# Altium integrated library Diode - Rectifier.IntLib: 777 symbols (part 2 of 12)
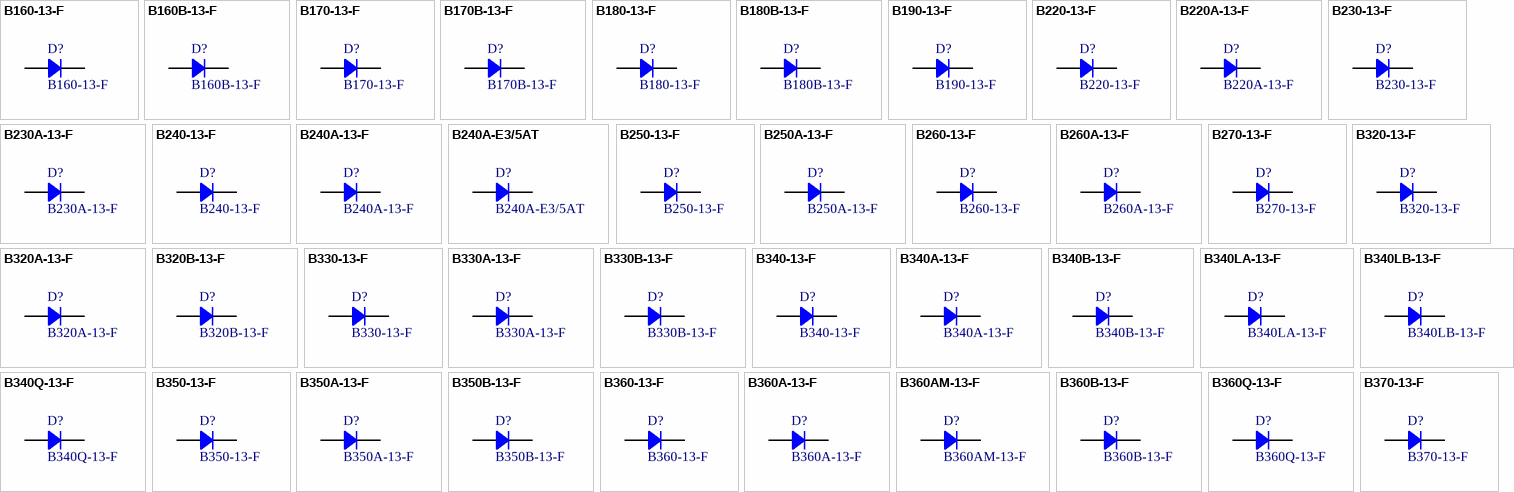
[diagram p20: symbols B160-13-F to B370-13-F]

## B340A-13-F
designator D?
DIODE SCHOTTKY 40V 3A SMA; Manufacturer: Diodes Incorporated; Current Reverse Leakage @ Vr: 500uA @ 40V; Voltage Forward (Vf): 500mV @ 3A; Part Number: B340A-13-F; PartId: 16333; Supplier 1: Digi-Key; Supplier Part Number 1: B340A-FDITR-ND; ComponentLink1Description: Datasheet; ComponentLink1URL: http://www.diodes.com/_files/datasheets/ds30891.pdf; ComponentLink2Description: Digi-Key Listing; ComponentLink2URL: https://www.digikey.com/product-detail/en/diodes-incorporated/B340A-13-F/B340A-FDITR-ND/725015; Junction Operating Temperature: -55C ~ 150C; Price: 0.1085; Type: Schottky; Device Package: DO-214AC, SMA; Voltage DC Reverse (Vr): 40V; Current Rectified: 3A
footprint DO214AC SMA
pins: 1, 2

## B340B-13-F
designator D?
DIODE SCHOTTKY 40V 3A SMB; Manufacturer: Diodes Incorporated; Current Reverse Leakage @ Vr: 500uA @ 40V; Voltage Forward (Vf): 500mV @ 3A; Part Number: B340B-13-F; PartId: 16249; Supplier 1: Digi-Key; Supplier Part Number 1: B340B-FDITR-ND; ComponentLink1Description: Datasheet; ComponentLink1URL: http://www.diodes.com/_files/datasheets/ds30924.pdf; ComponentLink2Description: Digi-Key Listing; ComponentLink2URL: https://www.digikey.com/product-detail/en/diodes-incorporated/B340B-13-F/B340B-FDITR-ND/768869; Junction Operating Temperature: -55C ~ 150C; Price: 0.132; Type: Schottky; Device Package: DO-214AA, SMB; Voltage DC Reverse (Vr): 40V; Current Rectified: 3A
footprint DO214AA SMB
pins: 1, 2

## B340LA-13-F
designator D?
DIODE SCHOTTKY 40V 3A SMA; Manufacturer: Diodes Incorporated; Current Reverse Leakage @ Vr: 2mA @ 40V; Voltage Forward (Vf): 450mV @ 3A; Part Number: B340LA-13-F; PartId: 16340; Supplier 1: Digi-Key; Supplier Part Number 1: B340LA-FDITR-ND; ComponentLink1Description: Datasheet; ComponentLink1URL: http://www.diodes.com/_files/datasheets/ds30240.pdf; ComponentLink2Description: Digi-Key Listing; ComponentLink2URL: https://www.digikey.com/product-detail/en/diodes-incorporated/B340LA-13-F/B340LA-FDITR-ND/768769; Junction Operating Temperature: -55C ~ 125C; Price: 0.1305; Type: Schottky; Device Package: DO-214AC, SMA; Voltage DC Reverse (Vr): 40V; Current Rectified: 3A
footprint DO214AC SMA
pins: 1, 2

## B340LB-13-F
designator D?
DIODE SCHOTTKY 40V 3A SMB; Manufacturer: Diodes Incorporated; Current Reverse Leakage @ Vr: 2mA @ 40V; Voltage Forward (Vf): 450mV @ 3A; Part Number: B340LB-13-F; PartId: 16254; Supplier 1: Digi-Key; Supplier Part Number 1: B340LB-FDITR-ND; ComponentLink1Description: Datasheet; ComponentLink1URL: http://www.diodes.com/_files/datasheets/ds30240.pdf; ComponentLink2Description: Digi-Key Listing; ComponentLink2URL: https://www.digikey.com/product-detail/en/diodes-incorporated/B340LB-13-F/B340LB-FDITR-ND/755461; Junction Operating Temperature: -55C ~ 125C; Price: 0.1395; Type: Schottky; Device Package: DO-214AA, SMB; Voltage DC Reverse (Vr): 40V; Current Rectified: 3A
footprint DO214AA SMB
pins: 1, 2

## B340Q-13-F
designator D?
DIODE SCHOTTKY 40V 3A SMC; Manufacturer: Diodes Incorporated; Current Reverse Leakage @ Vr: 100nA @ 40V; Voltage Forward (Vf): 500mV @ 3A; Part Number: B340Q-13-F; PartId: 27818; Supplier 1: Digi-Key; Supplier Part Number 1: B340Q-13-FDICT-ND; ComponentLink1Description: Datasheet; ComponentLink1URL: http://www.diodes.com/_files/datasheets/B370Q-B3100Q.pdf; ComponentLink2Description: Digi-Key Listing; ComponentLink2URL: https://www.digikey.com/product-detail/en/diodes-incorporated/B340Q-13-F/B340Q-13-FDICT-ND/6012770; Junction Operating Temperature: -55C ~ 150C; Price: 0.48; Type: Schottky; Device Package: DO-214AB, SMC; Voltage DC Reverse (Vr): 40V; Current Rectified: 3A
footprint ST DO214AB SMC
pins: 1, 2

## B350-13-F
designator D?
DIODE SCHOTTKY 50V 3A SMC; Manufacturer: Diodes Incorporated; Current Reverse Leakage @ Vr: 500uA @ 50V; Voltage Forward (Vf): 700mV @ 3A; Part Number: B350-13-F; PartId: 16217; Supplier 1: Digi-Key; Supplier Part Number 1: B350-FDITR-ND; ComponentLink1Description: Datasheet; ComponentLink1URL: http://www.diodes.com/_files/datasheets/ds30923.pdf; ComponentLink2Description: Digi-Key Listing; ComponentLink2URL: https://www.digikey.com/product-detail/en/diodes-incorporated/B350-13-F/B350-FDITR-ND/724948; Junction Operating Temperature: -55C ~ 125C; Price: 0.155; Type: Schottky; Device Package: DO-214AB, SMC; Voltage DC Reverse (Vr): 50V; Current Rectified: 3A
footprint DO214AB SMC
pins: 1, 2

## B350A-13-F
designator D?
DIODE SCHOTTKY 50V 3A SMA; Manufacturer: Diodes Incorporated; Current Reverse Leakage @ Vr: 500uA @ 50V; Voltage Forward (Vf): 700mV @ 3A; Part Number: B350A-13-F; PartId: 16343; Supplier 1: Digi-Key; Supplier Part Number 1: B350A-FDITR-ND; ComponentLink1Description: Datasheet; ComponentLink1URL: http://www.diodes.com/_files/datasheets/ds30891.pdf; ComponentLink2Description: Digi-Key Listing; ComponentLink2URL: https://www.digikey.com/product-detail/en/diodes-incorporated/B350A-13-F/B350A-FDITR-ND/751522; Junction Operating Temperature: -55C ~ 150C; Price: 0.1377; Type: Schottky; Device Package: DO-214AC, SMA; Voltage DC Reverse (Vr): 50V; Current Rectified: 3A
footprint DO214AC SMA
pins: 1, 2

## B350B-13-F
designator D?
DIODE SCHOTTKY 50V 3A SMB; Manufacturer: Diodes Incorporated; Current Reverse Leakage @ Vr: 500uA @ 50V; Voltage Forward (Vf): 700mV @ 3A; Part Number: B350B-13-F; PartId: 16258; Supplier 1: Digi-Key; Supplier Part Number 1: B350B-FDITR-ND; ComponentLink1Description: Datasheet; ComponentLink1URL: http://www.diodes.com/_files/datasheets/ds30924.pdf; ComponentLink2Description: Digi-Key Listing; ComponentLink2URL: https://www.digikey.com/product-detail/en/diodes-incorporated/B350B-13-F/B350B-FDITR-ND/724949; Junction Operating Temperature: -55C ~ 150C; Price: 0.186; Type: Schottky; Device Package: DO-214AA, SMB; Voltage DC Reverse (Vr): 50V; Current Rectified: 3A
footprint DO214AA SMB
pins: 1, 2

## B360-13-F
designator D?
DIODE SCHOTTKY 60V 3A SMC; Manufacturer: Diodes Incorporated; Current Reverse Leakage @ Vr: 500uA @ 60V; Voltage Forward (Vf): 700mV @ 3A; Part Number: B360-13-F; PartId: 16218; Supplier 1: Digi-Key; Supplier Part Number 1: B360-FDITR-ND; ComponentLink1Description: Datasheet; ComponentLink1URL: http://www.diodes.com/_files/datasheets/ds30923.pdf; ComponentLink2Description: Digi-Key Listing; ComponentLink2URL: https://www.digikey.com/product-detail/en/diodes-incorporated/B360-13-F/B360-FDITR-ND/814949; Junction Operating Temperature: -55C ~ 150C; Price: 0.1705; Type: Schottky; Device Package: DO-214AB, SMC; Voltage DC Reverse (Vr): 60V; Current Rectified: 3A
footprint DO214AB SMC
pins: 1, 2

## B360A-13-F
designator D?
DIODE SCHOTTKY 60V 3A SMA; Manufacturer: Diodes Incorporated; Current Reverse Leakage @ Vr: 500uA @ 60V; Voltage Forward (Vf): 700mV @ 3A; Part Number: B360A-13-F; PartId: 16335; Supplier 1: Digi-Key; Supplier Part Number 1: B360A-FDITR-ND; ComponentLink1Description: Datasheet; ComponentLink1URL: http://www.diodes.com/_files/datasheets/ds30891.pdf; ComponentLink2Description: Digi-Key Listing; ComponentLink2URL: https://www.digikey.com/product-detail/en/diodes-incorporated/B360A-13-F/B360A-FDITR-ND/724950; Junction Operating Temperature: -55C ~ 150C; Price: 0.1162; Type: Schottky; Device Package: DO-214AC, SMA; Voltage DC Reverse (Vr): 60V; Current Rectified: 3A
footprint DO214AC SMA
pins: 1, 2

## B360AM-13-F
designator D?
DIODE SCHOTTKY 60V 3A SMA; Manufacturer: Diodes Incorporated; Current Reverse Leakage @ Vr: 100uA @ 60V; Voltage Forward (Vf): 700mV @ 3A; Part Number: B360AM-13-F; PartId: 16359; Supplier 1: Digi-Key; Supplier Part Number 1: B360AM-13-FDITR-ND; ComponentLink1Description: Datasheet; ComponentLink1URL: http://diodes.com/_files/datasheets/B360AM.pdf; ComponentLink2Description: Digi-Key Listing; ComponentLink2URL: https://www.digikey.com/product-detail/en/diodes-incorporated/B360AM-13-F/B360AM-13-FDITR-ND/5225291; Junction Operating Temperature: -55C ~ 150C; Price: 0.1545; Type: Schottky; Device Package: DO-214AC, SMA; Voltage DC Reverse (Vr): 60V; Current Rectified: 3A
footprint DO214AC SMA
pins: 1, 2

## B360B-13-F
designator D?
DIODE SCHOTTKY 60V 3A SMB; Manufacturer: Diodes Incorporated; Current Reverse Leakage @ Vr: 500uA @ 60V; Voltage Forward (Vf): 700mV @ 3A; Part Number: B360B-13-F; PartId: 16255; Supplier 1: Digi-Key; Supplier Part Number 1: B360B-FDITR-ND; ComponentLink1Description: Datasheet; ComponentLink1URL: http://www.diodes.com/_files/datasheets/ds30924.pdf; ComponentLink2Description: Digi-Key Listing; ComponentLink2URL: https://www.digikey.com/product-detail/en/diodes-incorporated/B360B-13-F/B360B-FDITR-ND/814950; Junction Operating Temperature: -55C ~ 150C; Price: 0.1395; Type: Schottky; Device Package: DO-214AA, SMB; Voltage DC Reverse (Vr): 60V; Current Rectified: 3A
footprint DO214AA SMB
pins: 1, 2

## B360Q-13-F
designator D?
DIODE SCHOTTKY 60V 3A SMC; Manufacturer: Diodes Incorporated; Current Reverse Leakage @ Vr: 100nA @ 60V; Voltage Forward (Vf): 700mV @ 3A; Part Number: B360Q-13-F; PartId: 27816; Supplier 1: Digi-Key; Supplier Part Number 1: B360Q-13-FDICT-ND; ComponentLink1Description: Datasheet; ComponentLink1URL: http://www.diodes.com/_files/datasheets/B370Q-B3100Q.pdf; ComponentLink2Description: Digi-Key Listing; ComponentLink2URL: https://www.digikey.com/product-detail/en/diodes-incorporated/B360Q-13-F/B360Q-13-FDICT-ND/6012769; Junction Operating Temperature: -55C ~ 150C; Price: 0.45; Type: Schottky; Device Package: DO-214AB, SMC; Voltage DC Reverse (Vr): 60V; Current Rectified: 3A
footprint ST DO214AB SMC
pins: 1, 2

## B370-13-F
designator D?
DIODE SCHOTTKY 70V 3A SMC; Manufacturer: Diodes Incorporated; Current Reverse Leakage @ Vr: 500uA @ 70V; Voltage Forward (Vf): 790mV @ 3A; Part Number: B370-13-F; PartId: 16205; Supplier 1: Digi-Key; Supplier Part Number 1: B370-FDITR-ND; ComponentLink1Description: Datasheet; ComponentLink1URL: //media.digikey.com/pdf/Data%20Sheets/Diodes%20PDFs/B370-B3100.pdf; ComponentLink2Description: Digi-Key Listing; ComponentLink2URL: https://www.digikey.com/product-detail/en/diodes-incorporated/B370-13-F/B370-FDITR-ND/814948; Junction Operating Temperature: -55C ~ 125C; Price: 0.217; Type: Schottky; Device Package: DO-214AB, SMC; Voltage DC Reverse (Vr): 70V; Current Rectified: 3A
footprint DO214AB SMC
pins: 1, 2

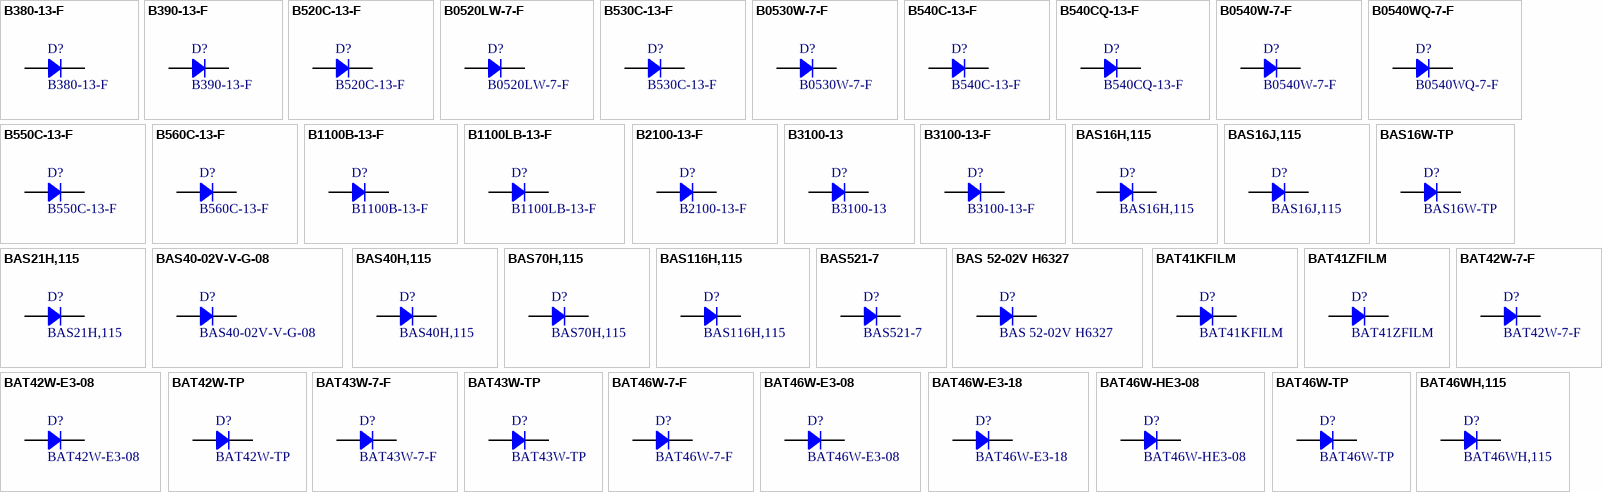
[diagram p2: symbols B380-13-F to BAT46WH,115]

## B380-13-F
designator D?
DIODE SCHOTTKY 80V 3A SMC; Manufacturer: Diodes Incorporated; Current Reverse Leakage @ Vr: 500uA @ 80V; Voltage Forward (Vf): 790mV @ 3A; Part Number: B380-13-F; PartId: 16210; Supplier 1: Digi-Key; Supplier Part Number 1: B380-FDITR-ND; ComponentLink1Description: Datasheet; ComponentLink1URL: //media.digikey.com/pdf/Data%20Sheets/Diodes%20PDFs/B370-B3100.pdf; ComponentLink2Description: Digi-Key Listing; ComponentLink2URL: https://www.digikey.com/product-detail/en/diodes-incorporated/B380-13-F/B380-FDITR-ND/814987; Junction Operating Temperature: -55C ~ 125C; Price: 0.29; Type: Schottky; Device Package: DO-214AB, SMC; Voltage DC Reverse (Vr): 80V; Current Rectified: 3A
footprint DO214AB SMC
pins: 1, 2

## B390-13-F
designator D?
DIODE SCHOTTKY 90V 3A SMC; Manufacturer: Diodes Incorporated; Current Reverse Leakage @ Vr: 500uA @ 90V; Voltage Forward (Vf): 790mV @ 3A; Part Number: B390-13-F; PartId: 27883; Supplier 1: Digi-Key; Supplier Part Number 1: B390-FDICT-ND; ComponentLink1Description: Datasheet; ComponentLink1URL: //media.digikey.com/pdf/Data%20Sheets/Diodes%20PDFs/B370-B3100.pdf; ComponentLink2Description: Digi-Key Listing; ComponentLink2URL: https://www.digikey.com/product-detail/en/diodes-incorporated/B390-13-F/B390-FDICT-ND/806564; Junction Operating Temperature: -55C ~ 125C; Price: 1.6; Type: Schottky; Device Package: DO-214AB, SMC; Voltage DC Reverse (Vr): 90V; Current Rectified: 3A
footprint ST DO214AB SMC
pins: 1, 2

## B520C-13-F
designator D?
DIODE SCHOTTKY 20V 5A SMC; Manufacturer: Diodes Incorporated; Current Reverse Leakage @ Vr: 500uA @ 20V; Voltage Forward (Vf): 550mV @ 5A; Part Number: B520C-13-F; PartId: 16228; Supplier 1: Digi-Key; Supplier Part Number 1: B520C-FDITR-ND; ComponentLink1Description: Datasheet; ComponentLink1URL: http://www.diodes.com/_files/datasheets/ds13012.pdf; ComponentLink2Description: Digi-Key Listing; ComponentLink2URL: https://www.digikey.com/product-detail/en/diodes-incorporated/B520C-13-F/B520C-FDITR-ND/806535; Junction Operating Temperature: -55C ~ 150C; Price: 0.3335; Type: Schottky; Device Package: DO-214AB, SMC; Voltage DC Reverse (Vr): 20V; Current Rectified: 5A
footprint DO214AB SMC
pins: 1, 2

## B0520LW-7-F
designator D?
DIODE SCHOTTKY 20V 500MA SOD123; Manufacturer: Diodes Incorporated; Current Reverse Leakage @ Vr: 250uA @ 20V; Voltage Forward (Vf): 385mV @ 500mA; Part Number: B0520LW-7-F; PartId: 14596; Supplier 1: Digi-Key; Supplier Part Number 1: B0520LW-FDITR-ND; ComponentLink1Description: Datasheet; ComponentLink1URL: http://www.diodes.com/_files/datasheets/ds30051.pdf; ComponentLink2Description: Digi-Key Listing; ComponentLink2URL: https://www.digikey.com/product-detail/en/diodes-incorporated/B0520LW-7-F/B0520LW-FDITR-ND/717687; Junction Operating Temperature: -65C ~ 125C; Price: 0.0552; Type: Schottky; Device Package: SOD-123; Voltage DC Reverse (Vr): 20V; Current Rectified: 500mA
footprint SOD-123
pins: 1, 2

## B530C-13-F
designator D?
DIODE SCHOTTKY 30V 5A SMC; Manufacturer: Diodes Incorporated; Current Reverse Leakage @ Vr: 500uA @ 30V; Voltage Forward (Vf): 550mV @ 5A; Part Number: B530C-13-F; PartId: 16229; Supplier 1: Digi-Key; Supplier Part Number 1: B530C-FDITR-ND; ComponentLink1Description: Datasheet; ComponentLink1URL: http://www.diodes.com/_files/datasheets/ds13012.pdf; ComponentLink2Description: Digi-Key Listing; ComponentLink2URL: https://www.digikey.com/product-detail/en/diodes-incorporated/B530C-13-F/B530C-FDITR-ND/768770; Junction Operating Temperature: -55C ~ 150C; Price: 0.348; Type: Schottky; Device Package: DO-214AB, SMC; Voltage DC Reverse (Vr): 30V; Current Rectified: 5A
footprint DO214AB SMC
pins: 1, 2

## B0530W-7-F
designator D?
DIODE SCHOTTKY 30V 500MA SOD123; Manufacturer: Diodes Incorporated; Current Reverse Leakage @ Vr: 130uA @ 30V; Voltage Forward (Vf): 430mV @ 500mA; Part Number: B0530W-7-F; PartId: 14597; Supplier 1: Digi-Key; Supplier Part Number 1: B0530W-FDITR-ND; ComponentLink1Description: Datasheet; ComponentLink1URL: http://www.diodes.com/_files/datasheets/ds30139.pdf; ComponentLink2Description: Digi-Key Listing; ComponentLink2URL: https://www.digikey.com/product-detail/en/diodes-incorporated/B0530W-7-F/B0530W-FDITR-ND/814937; Junction Operating Temperature: -65C ~ 125C; Price: 0.0552; Type: Schottky; Device Package: SOD-123; Voltage DC Reverse (Vr): 30V; Current Rectified: 500mA
footprint SOD-123
pins: 1, 2

## B540C-13-F
designator D?
DIODE SCHOTTKY 40V 5A SMC; Manufacturer: Diodes Incorporated; Current Reverse Leakage @ Vr: 500uA @ 40V; Voltage Forward (Vf): 550mV @ 5A; Part Number: B540C-13-F; PartId: 16200; Supplier 1: Digi-Key; Supplier Part Number 1: B540C-FDITR-ND; ComponentLink1Description: Datasheet; ComponentLink1URL: http://www.diodes.com/_files/datasheets/ds13012.pdf; ComponentLink2Description: Digi-Key Listing; ComponentLink2URL: https://www.digikey.com/product-detail/en/diodes-incorporated/B540C-13-F/B540C-FDITR-ND/768771; Junction Operating Temperature: -55C ~ 125C; Price: 0.1705; Type: Schottky; Device Package: DO-214AB, SMC; Voltage DC Reverse (Vr): 40V; Current Rectified: 5A
footprint DO214AB SMC
pins: 1, 2

## B540CQ-13-F
designator D?
DIODE SCHOTTKY 40V 5A SMC; Manufacturer: Diodes Incorporated; Current Reverse Leakage @ Vr: 500uA @ 40V; Voltage Forward (Vf): 550mV @ 5A; Part Number: B540CQ-13-F; PartId: 27686; Supplier 1: Digi-Key; Supplier Part Number 1: B540CQ-13-FDICT-ND; ComponentLink1Description: Datasheet; ComponentLink1URL: http://diodes.com/_files/datasheets/ds13012.pdf; ComponentLink2Description: Digi-Key Listing; ComponentLink2URL: https://www.digikey.com/product-detail/en/diodes-incorporated/B540CQ-13-F/B540CQ-13-FDICT-ND/5223258; Junction Operating Temperature: -55C ~ 150C; Price: 0.54; Type: Schottky; Device Package: DO-214AB, SMC; Voltage DC Reverse (Vr): 40V; Current Rectified: 5A
footprint ST DO214AB SMC
pins: 1, 2

## B0540W-7-F
designator D?
DIODE SCHOTTKY 40V 500MA SOD123; Manufacturer: Diodes Incorporated; Current Reverse Leakage @ Vr: 20uA @ 40V; Voltage Forward (Vf): 510mV @ 500mA; Part Number: B0540W-7-F; PartId: 14601; Supplier 1: Digi-Key; Supplier Part Number 1: B0540W-FDITR-ND; ComponentLink1Description: Datasheet; ComponentLink1URL: http://www.diodes.com/_files/datasheets/ds30138.pdf; ComponentLink2Description: Digi-Key Listing; ComponentLink2URL: https://www.digikey.com/product-detail/en/diodes-incorporated/B0540W-7-F/B0540W-FDITR-ND/717688; Junction Operating Temperature: -65C ~ 150C; Price: 0.0644; Type: Schottky; Device Package: SOD-123; Voltage DC Reverse (Vr): 40V; Current Rectified: 500mA
footprint SOD-123
pins: 1, 2

## B0540WQ-7-F
designator D?
DIODE SCHOTTKY 40V 500MA SOD123; Manufacturer: Diodes Incorporated; Current Reverse Leakage @ Vr: 20uA @ 40V; Voltage Forward (Vf): 510mV @ 500mA; Part Number: B0540WQ-7-F; PartId: 29426; Supplier 1: Digi-Key; Supplier Part Number 1: B0540WQ-7-FDICT-ND; ComponentLink1Description: Datasheet; ComponentLink1URL: http://www.diodes.com/_files/datasheets/B0540WQ.pdf; ComponentLink2Description: Digi-Key Listing; ComponentLink2URL: https://www.digikey.com/product-detail/en/diodes-incorporated/B0540WQ-7-F/B0540WQ-7-FDICT-ND/6193618; Junction Operating Temperature: -55C ~ 150C; Price: 0.37; Type: Schottky; Device Package: SOD-123; Voltage DC Reverse (Vr): 40V; Current Rectified: 500mA
footprint SOD-123
pins: 1, 2

## B550C-13-F
designator D?
DIODE SCHOTTKY 50V 5A SMC; Manufacturer: Diodes Incorporated; Current Reverse Leakage @ Vr: 500uA @ 50V; Voltage Forward (Vf): 700mV @ 5A; Part Number: B550C-13-F; PartId: 16211; Supplier 1: Digi-Key; Supplier Part Number 1: B550C-FDITR-ND; ComponentLink1Description: Datasheet; ComponentLink1URL: http://www.diodes.com/_files/datasheets/ds13012.pdf; ComponentLink2Description: Digi-Key Listing; ComponentLink2URL: https://www.digikey.com/product-detail/en/diodes-incorporated/B550C-13-F/B550C-FDITR-ND/768772; Junction Operating Temperature: -55C ~ 150C; Price: 0.3335; Type: Schottky; Device Package: DO-214AB, SMC; Voltage DC Reverse (Vr): 50V; Current Rectified: 5A
footprint DO214AB SMC
pins: 1, 2

## B560C-13-F
designator D?
DIODE SCHOTTKY 60V 5A SMC; Manufacturer: Diodes Incorporated; Current Reverse Leakage @ Vr: 500uA @ 60V; Voltage Forward (Vf): 700mV @ 5A; Part Number: B560C-13-F; PartId: 16199; Supplier 1: Digi-Key; Supplier Part Number 1: B560C-FDITR-ND; ComponentLink1Description: Datasheet; ComponentLink1URL: http://www.diodes.com/_files/datasheets/ds13012.pdf; ComponentLink2Description: Digi-Key Listing; ComponentLink2URL: https://www.digikey.com/product-detail/en/diodes-incorporated/B560C-13-F/B560C-FDITR-ND/768773; Junction Operating Temperature: -55C ~ 150C; Price: 0.1705; Type: Schottky; Device Package: DO-214AB, SMC; Voltage DC Reverse (Vr): 60V; Current Rectified: 5A
footprint DO214AB SMC
pins: 1, 2

## B1100B-13-F
designator D?
DIODE SCHOTTKY 100V 1A SMB; Manufacturer: Diodes Incorporated; Current Reverse Leakage @ Vr: 500uA @ 100V; Voltage Forward (Vf): 790mV @ 1A; Part Number: B1100B-13-F; PartId: 16295; Supplier 1: Digi-Key; Supplier Part Number 1: B1100B-FDITR-ND; ComponentLink1Description: Datasheet; ComponentLink1URL: http://www.diodes.com/_files/datasheets/ds30018.pdf; ComponentLink2Description: Digi-Key Listing; ComponentLink2URL: https://www.digikey.com/product-detail/en/diodes-incorporated/B1100B-13-F/B1100B-FDITR-ND/768766; Junction Operating Temperature: -65C ~ 150C; Price: 0.3335; Type: Schottky; Device Package: DO-214AA, SMB; Voltage DC Reverse (Vr): 100V; Current Rectified: 1A
footprint DO214AA SMB
pins: 1, 2

## B1100LB-13-F
designator D?
DIODE SCHOTTKY 100V 1A SMB; Manufacturer: Diodes Incorporated; Current Reverse Leakage @ Vr: 500uA @ 100V; Voltage Forward (Vf): 750mV @ 1A; Part Number: B1100LB-13-F; PartId: 16248; Supplier 1: Digi-Key; Supplier Part Number 1: B1100LB-FDITR-ND; ComponentLink1Description: Datasheet; ComponentLink1URL: http://www.diodes.com/_files/datasheets/ds30077.pdf; ComponentLink2Description: Digi-Key Listing; ComponentLink2URL: https://www.digikey.com/product-detail/en/diodes-incorporated/B1100LB-13-F/B1100LB-FDITR-ND/814932; Junction Operating Temperature: -65C ~ 175C; Price: 0.1188; Type: Schottky; Device Package: DO-214AA, SMB; Voltage DC Reverse (Vr): 100V; Current Rectified: 1A
footprint DO214AA SMB
pins: 1, 2

## B2100-13-F
designator D?
DIODE SCHOTTKY 100V 2A SMB; Manufacturer: Diodes Incorporated; Current Reverse Leakage @ Vr: 7mA @ 100V; Voltage Forward (Vf): 790mV @ 2A; Part Number: B2100-13-F; PartId: 16252; Supplier 1: Digi-Key; Supplier Part Number 1: B2100-FDITR-ND; ComponentLink1Description: Datasheet; ComponentLink1URL: http://www.diodes.com/_files/datasheets/ds30021.pdf; ComponentLink2Description: Digi-Key Listing; ComponentLink2URL: https://www.digikey.com/product-detail/en/diodes-incorporated/B2100-13-F/B2100-FDITR-ND/814957; Junction Operating Temperature: -65C ~ 150C; Price: 0.132; Type: Schottky; Device Package: DO-214AA, SMB; Voltage DC Reverse (Vr): 100V; Current Rectified: 2A
footprint DO214AA SMB
pins: 1, 2

## B3100-13
designator D?
DIODE SCHOTTKY 100V 3A SMC; Manufacturer: Diodes Incorporated; Current Reverse Leakage @ Vr: 500uA @ 100V; Voltage Forward (Vf): 790mV @ 3A; Part Number: B3100-13; PartId: 16236; Supplier 1: Digi-Key; Supplier Part Number 1: 981-B3100-13-CHP; ComponentLink1Description: Datasheet; ComponentLink1URL: //media.digikey.com/pdf/Data%20Sheets/Diodes%20PDFs/B370-B3100.pdf; ComponentLink2Description: Digi-Key Listing; ComponentLink2URL: https://www.digikey.com/product-detail/en/diodes-incorporated/B3100-13/981-B3100-13-CHP/2348224; Junction Operating Temperature: -55C ~ 125C; Price: 0.672; Type: Schottky; Device Package: DO-214AB, SMC; Voltage DC Reverse (Vr): 100V; Current Rectified: 3A
footprint DO214AB SMC
pins: 1, 2

## B3100-13-F
designator D?
DIODE SCHOTTKY 100V 3A SMC; Manufacturer: Diodes Incorporated; Current Reverse Leakage @ Vr: 500uA @ 100V; Voltage Forward (Vf): 790mV @ 3A; Part Number: B3100-13-F; PartId: 16204; Supplier 1: Digi-Key; Supplier Part Number 1: B3100-FDITR-ND; ComponentLink1Description: Datasheet; ComponentLink1URL: //media.digikey.com/pdf/Data%20Sheets/Diodes%20PDFs/B370-B3100.pdf; ComponentLink2Description: Digi-Key Listing; ComponentLink2URL: https://www.digikey.com/product-detail/en/diodes-incorporated/B3100-13-F/B3100-FDITR-ND/808529; Junction Operating Temperature: -55C ~ 125C; Price: 0.217; Type: Schottky; Device Package: DO-214AB, SMC; Voltage DC Reverse (Vr): 100V; Current Rectified: 3A
footprint DO214AB SMC
pins: 1, 2

## BAS16H,115
designator D?
DIODE GEN PURP 100V 215MA SOD123; Manufacturer: NXP USA Inc.; Type: Standard; Current Reverse Leakage @ Vr: 500nA @ 80V; Reverse Recovery Time (trr): 4ns; Current Rectified: 215mA (DC); Voltage Forward (Vf): 1.25V @ 150mA; Part Number: BAS16H,115; PartId: 29182; Supplier 1: Digi-Key; Supplier Part Number 1: 568-5995-1-ND; ComponentLink1Description: Datasheet; ComponentLink1URL: http://www.nxp.com/documents/data_sheet/BAS16_SER.pdf; ComponentLink2Description: Digi-Key Listing; ComponentLink2URL: https://www.digikey.com/product-detail/en/nxp-usa-inc/BAS16H,115/568-5995-1-ND/2531282; Junction Operating Temperature: 150C (Max); Price: 0.32; Device Package: SOD-123F; Voltage DC Reverse (Vr): 100V
footprint SOD123F
pins: 1, 2

## BAS16J,115
designator D?
DIODE GEN PURP 100V 250MA SOD323; Manufacturer: NXP Semiconductors; Type: Surface Mount; Current Reverse Leakage @ Vr: 500nA @ 80V; Reverse Recovery Time (trr): 4ns; Current Rectified: 250mA (DC); Voltage Forward (Vf): 1.25V @ 150mA; Part Number: BAS16J,115; PartId: 7115; Supplier 1: Digi-Key; Supplier Part Number 1: 568-7976-2-ND; ComponentLink1Description: Datasheet; ComponentLink1URL: http://www.nxp.com/documents/data_sheet/BAS16_SER.pdf; ComponentLink2Description: Digi-Key Listing; ComponentLink2URL: http://www.digikey.ca/product-detail/en/BAS16J,115/568-7976-2-ND/1692651; Junction Operating Temperature: 150C (Max); Price: 0.0449; Device Package: SC-90, SOD-323F; Voltage DC Reverse (Vr): 100V
footprint SOD323F
pins: 1, 2

## BAS16W-TP
designator D?
DIODE GEN PURP 75V 100MA SOD123; Manufacturer: Micro Commercial Co; Type: Standard; Current Reverse Leakage @ Vr: 1uA @ 75V; Reverse Recovery Time (trr): 6ns; Voltage Forward (Vf): 1.25V @ 150mA; Part Number: BAS16W-TP; PartId: 29357; Supplier 1: Digi-Key; Supplier Part Number 1: BAS16WTPMSCT-ND; ComponentLink1Description: Datasheet; ComponentLink1URL: http://www.mccsemi.com/up_pdf/BAS16W(SOD123).pdf; ComponentLink2Description: Digi-Key Listing; ComponentLink2URL: https://www.digikey.com/product-detail/en/micro-commercial-co/BAS16W-TP/BAS16WTPMSCT-ND/717316; Junction Operating Temperature: -55C ~ 150C; Price: 0.21; Device Package: SOD-123; Voltage DC Reverse (Vr): 75V; Current Rectified: 100mA
footprint SOD-123
pins: 1, 2

## BAS21H,115
designator D?
DIODE GEN PURP 200V 200MA SOD123; Manufacturer: NXP USA Inc.; Type: Standard; Current Reverse Leakage @ Vr: 100nA @ 200V; Reverse Recovery Time (trr): 50ns; Current Rectified: 200mA (DC); Voltage Forward (Vf): 1.25V @ 200mA; Part Number: BAS21H,115; PartId: 29181; Supplier 1: Digi-Key; Supplier Part Number 1: 568-7980-1-ND; ComponentLink1Description: Datasheet; ComponentLink1URL: http://www.nxp.com/documents/data_sheet/BAS21H.pdf; ComponentLink2Description: Digi-Key Listing; ComponentLink2URL: https://www.digikey.com/product-detail/en/nxp-usa-inc/BAS21H,115/568-7980-1-ND/2762670; Junction Operating Temperature: 150C (Max); Price: 0.3; Device Package: SOD-123F; Voltage DC Reverse (Vr): 200V
footprint SOD123F
pins: 1, 2

## BAS40-02V-V-G-08
designator D?
DIODE SCHOTTKY 40V 200MA SOD523; Manufacturer: Vishay Semiconductor Diodes Division; Type: Surface Mount; Current Reverse Leakage @ Vr: 100nA @ 30V; Reverse Recovery Time (trr): 5ns; Voltage Forward (Vf): 380mV @ 1mA; Part Number: BAS40-02V-V-G-08; PartId: 7149; Supplier 1: Digi-Key; Supplier Part Number 1: BAS40-02V-V-G-08GITR-ND; ComponentLink1Description: Datasheet; ComponentLink1URL: http://www.vishay.com/docs/82391/bas4002v.pdf; ComponentLink2Description: Digi-Key Listing; ComponentLink2URL: http://www.digikey.ca/product-detail/en/BAS40-02V-V-G-08/BAS40-02V-V-G-08GITR-ND/4810555; Junction Operating Temperature: -55C ~ 125C; Price: 0.0975; Device Package: SC-79, SOD-523; Voltage DC Reverse (Vr): 40V; Current Rectified: 200mA
footprint SOD523F
pins: 1, 2

## BAS40H,115
designator D?
DIODE SCHOTTKY 40V 120MA SOD123F; Manufacturer: NXP USA Inc.; Current Reverse Leakage @ Vr: 10uA @ 40V; Current Rectified: 120mA (DC); Voltage Forward (Vf): 1V @ 40mA; Part Number: BAS40H,115; PartId: 29188; Supplier 1: Digi-Key; Supplier Part Number 1: 568-3407-1-ND; ComponentLink1Description: Datasheet; ComponentLink1URL: http://www.nxp.com/documents/data_sheet/BAS40_1PSXXSB4X_SER.pdf; ComponentLink2Description: Digi-Key Listing; ComponentLink2URL: https://www.digikey.com/product-detail/en/nxp-usa-inc/BAS40H,115/568-3407-1-ND/1127196; Junction Operating Temperature: 150C (Max); Price: 0.37; Type: Schottky; Device Package: SOD-123F; Voltage DC Reverse (Vr): 40V
footprint SOD123F
pins: 1, 2

## BAS70H,115
designator D?
DIODE SCHOTTKY 70V 70MA SOD123F; Manufacturer: NXP USA Inc.; Current Reverse Leakage @ Vr: 10uA @ 70V; Current Rectified: 70mA (DC); Voltage Forward (Vf): 1V @ 15mA; Part Number: BAS70H,115; PartId: 29187; Supplier 1: Digi-Key; Supplier Part Number 1: 568-3410-1-ND; ComponentLink1Description: Datasheet; ComponentLink1URL: http://www.nxp.com/documents/data_sheet/BAS70_1PS7XSB70_SER.pdf; ComponentLink2Description: Digi-Key Listing; ComponentLink2URL: https://www.digikey.com/product-detail/en/nxp-usa-inc/BAS70H,115/568-3410-1-ND/1127199; Junction Operating Temperature: 150C (Max); Price: 0.37; Type: Schottky; Device Package: SOD-123F; Voltage DC Reverse (Vr): 70V
footprint SOD123F
pins: 1, 2

## BAS116H,115
designator D?
DIODE GEN PURP 75V 215MA SOD123F; Manufacturer: NXP USA Inc.; Type: Standard; Current Reverse Leakage @ Vr: 5nA @ 75V; Reverse Recovery Time (trr): 3us; Current Rectified: 215mA (DC); Voltage Forward (Vf): 1.25V @ 150mA; Part Number: BAS116H,115; PartId: 29180; Supplier 1: Digi-Key; Supplier Part Number 1: 568-7975-1-ND; ComponentLink1Description: Datasheet; ComponentLink1URL: http://www.nxp.com/documents/data_sheet/BAS116H.pdf; ComponentLink2Description: Digi-Key Listing; ComponentLink2URL: https://www.digikey.com/product-detail/en/nxp-usa-inc/BAS116H,115/568-7975-1-ND/2762665; Junction Operating Temperature: 150C (Max); Price: 0.29; Device Package: SOD-123F; Voltage DC Reverse (Vr): 75V
footprint SOD123F
pins: 1, 2

## BAS521-7
designator D?
DIODE GEN PURP 300V 250MA SOD523; Manufacturer: Diodes Incorporated; Type: Surface Mount; Current Reverse Leakage @ Vr: 150nA @ 250V; Reverse Recovery Time (trr): 50ns; Current Rectified: 250mA (DC); Voltage Forward (Vf): 1.1V @ 100mA; Part Number: BAS521-7; PartId: 7151; Supplier 1: Digi-Key; Supplier Part Number 1: BAS521-7DITR-ND; ComponentLink1Description: Datasheet; ComponentLink1URL: http://www.diodes.com/_files/datasheets/ds32175.pdf; ComponentLink2Description: Digi-Key Listing; ComponentLink2URL: http://www.digikey.ca/product-detail/en/BAS521-7/BAS521-7DITR-ND/2356529; Junction Operating Temperature: -65C ~ 150C; Price: 0.089; Device Package: SC-79, SOD-523; Voltage DC Reverse (Vr): 300V
footprint SOD523F
pins: 1, 2

## BAS 52-02V H6327
designator D?
DIODE SCHOTTKY 45V 750MA SC79-2; Manufacturer: Infineon Technologies; Type: Surface Mount; Current Reverse Leakage @ Vr: 10uA @ 45V; Current Rectified: 750mA (DC); Voltage Forward (Vf): 600mV @ 200mA; Part Number: BAS 52-02V H6327; PartId: 7147; Supplier 1: Digi-Key; Supplier Part Number 1: BAS 52-02V H6327TR-ND; ComponentLink1Description: Datasheet; ComponentLink1URL: http://www.infineon.com/dgdl/Infineon-BAS52SERIES-DS-v01_01-en.pdf?fileId=db3a30432d9b3066012dbc006764413f; ComponentLink2Description: Digi-Key Listing; ComponentLink2URL: http://www.digikey.ca/product-detail/en/BAS%2052-02V%20H6327/BAS%2052-02V%20H6327TR-ND/2337520; Junction Operating Temperature: 150C (Max); Price: 0.1204; Device Package: SC-79, SOD-523; Reverse Recovery Time (trr): -; Voltage DC Reverse (Vr): 45V
footprint SOD523F
pins: 1, 2

## BAT41KFILM
designator D?
DIODE SCHOTTKY 100V 200MA SOD523; Manufacturer: STMicroelectronics; Type: Surface Mount; Current Reverse Leakage @ Vr: 100nA @ 50V; Current Rectified: 200mA (DC); Voltage Forward (Vf): 1V @ 200mA; Part Number: BAT41KFILM; PartId: 7153; Supplier 1: Digi-Key; Supplier Part Number 1: 497-5556-2-ND; ComponentLink1Description: Datasheet; ComponentLink1URL: http://www.st.com/web/en/resource/technical/document/datasheet/CD00130227.pdf; ComponentLink2Description: Digi-Key Listing; ComponentLink2URL: http://www.digikey.ca/product-detail/en/BAT41KFILM/497-5556-2-ND/1207023; Junction Operating Temperature: 150C (Max); Price: 0.1523; Device Package: SC-79, SOD-523; Reverse Recovery Time (trr): -; Voltage DC Reverse (Vr): 100V
footprint SOD523F
pins: 1, 2

## BAT41ZFILM
designator D?
DIODE SCHOTTKY 100V 200MA SOD123; Manufacturer: STMicroelectronics; Current Reverse Leakage @ Vr: 100nA @ 50V; Current Rectified: 200mA (DC); Voltage Forward (Vf): 1V @ 200mA; Part Number: BAT41ZFILM; PartId: 29351; Supplier 1: Digi-Key; Supplier Part Number 1: 497-5558-1-ND; ComponentLink1Description: Datasheet; ComponentLink1URL: http://www.st.com/content/ccc/resource/technical/document/datasheet/5b/cd/d8/0a/45/56/41/6c/CD00130227.pdf/files/CD00130227.pdf/jcr:content/translations/en.CD00130227.pdf; ComponentLink2Description: Digi-Key Listing; ComponentLink2URL: https://www.digikey.com/product-detail/en/stmicroelectronics/BAT41ZFILM/497-5558-1-ND/1207050; Junction Operating Temperature: 150C (Max); Price: 0.48; Type: Schottky; Device Package: SOD-123; Voltage DC Reverse (Vr): 100V
footprint SOD-123
pins: 1, 2

## BAT42W-7-F
designator D?
DIODE SCHOTTKY 30V 200MA SOD123; Manufacturer: Diodes Incorporated; Current Reverse Leakage @ Vr: 500nA @ 25V; Reverse Recovery Time (trr): 5ns; Current Rectified: 200mA (DC); Voltage Forward (Vf): 1V @ 200mA; Part Number: BAT42W-7-F; PartId: 14599; Supplier 1: Digi-Key; Supplier Part Number 1: BAT42W-FDITR-ND; ComponentLink1Description: Datasheet; ComponentLink1URL: //media.digikey.com/pdf/Data%20Sheets/Diodes%20PDFs/BAT42W%20-BAT43W.pdf; ComponentLink2Description: Digi-Key Listing; ComponentLink2URL: https://www.digikey.com/product-detail/en/diodes-incorporated/BAT42W-7-F/BAT42W-FDITR-ND/674603; Junction Operating Temperature: -55C ~ 125C; Price: 0.0632; Type: Schottky; Device Package: SOD-123; Voltage DC Reverse (Vr): 30V
footprint SOD-123
pins: 1, 2

## BAT42W-E3-08
designator D?
DIODE SCHOTTKY 30V 200MA SOD123; Manufacturer: Vishay Semiconductor Diodes Division; Current Reverse Leakage @ Vr: 500nA @ 25V; Reverse Recovery Time (trr): 5ns; Current Rectified: 200mA (DC); Voltage Forward (Vf): 650mV @ 50mA; Part Number: BAT42W-E3-08; PartId: 29389; Supplier 1: Digi-Key; Supplier Part Number 1: BAT42W-E3-08CT-ND; ComponentLink1Description: Datasheet; ComponentLink1URL: http://www.vishay.com/docs/85661/bat42w.pdf; ComponentLink2Description: Digi-Key Listing; ComponentLink2URL: https://www.digikey.com/product-detail/en/vishay-semiconductor-diodes-division/BAT42W-E3-08/BAT42W-E3-08CT-ND/3104419; Junction Operating Temperature: 125C (Max); Price: 0.39; Type: Schottky; Device Package: SOD-123; Voltage DC Reverse (Vr): 30V
footprint SOD-123
pins: 1, 2

## BAT42W-TP
designator D?
DIODE SCHOTTKY 30V 200MA SOD123; Manufacturer: Micro Commercial Co; Current Reverse Leakage @ Vr: 500nA @ 25V; Reverse Recovery Time (trr): 5ns; Current Rectified: 200mA (DC); Voltage Forward (Vf): 1V @ 200mA; Part Number: BAT42W-TP; PartId: 29384; Supplier 1: Digi-Key; Supplier Part Number 1: BAT42WTPMSCT-ND; ComponentLink1Description: Datasheet; ComponentLink1URL: http://www.mccsemi.com/up_pdf/BAT42W-BAT43W(SOD-123).pdf; ComponentLink2Description: Digi-Key Listing; ComponentLink2URL: https://www.digikey.com/product-detail/en/micro-commercial-co/BAT42W-TP/BAT42WTPMSCT-ND/717337; Junction Operating Temperature: -55C ~ 125C; Price: 0.4; Type: Schottky; Device Package: SOD-123; Voltage DC Reverse (Vr): 30V
footprint SOD-123
pins: 1, 2

## BAT43W-7-F
designator D?
DIODE SCHOTTKY 30V 200MA SOD123; Manufacturer: Diodes Incorporated; Current Reverse Leakage @ Vr: 500nA @ 25V; Reverse Recovery Time (trr): 5ns; Current Rectified: 200mA (DC); Voltage Forward (Vf): 1V @ 200mA; Part Number: BAT43W-7-F; PartId: 14612; Supplier 1: Digi-Key; Supplier Part Number 1: BAT43W-FDITR-ND; ComponentLink1Description: Datasheet; ComponentLink1URL: //media.digikey.com/pdf/Data%20Sheets/Diodes%20PDFs/BAT42W%20-BAT43W.pdf; ComponentLink2Description: Digi-Key Listing; ComponentLink2URL: https://www.digikey.com/product-detail/en/diodes-incorporated/BAT43W-7-F/BAT43W-FDITR-ND/749953; Junction Operating Temperature: -55C ~ 125C; Price: 0.085; Type: Schottky; Device Package: SOD-123; Voltage DC Reverse (Vr): 30V
footprint SOD-123
pins: 1, 2

## BAT43W-TP
designator D?
DIODE SCHOTTKY 30V 200MA SOD123; Manufacturer: Micro Commercial Co; Current Reverse Leakage @ Vr: 500nA @ 25V; Reverse Recovery Time (trr): 5ns; Current Rectified: 200mA (DC); Voltage Forward (Vf): 1V @ 200mA; Part Number: BAT43W-TP; PartId: 29385; Supplier 1: Digi-Key; Supplier Part Number 1: BAT43WTPMSCT-ND; ComponentLink1Description: Datasheet; ComponentLink1URL: http://www.mccsemi.com/up_pdf/BAT42W-BAT43W(SOD-123).pdf; ComponentLink2Description: Digi-Key Listing; ComponentLink2URL: https://www.digikey.com/product-detail/en/micro-commercial-co/BAT43W-TP/BAT43WTPMSCT-ND/717339; Junction Operating Temperature: -55C ~ 125C; Price: 0.4; Type: Schottky; Device Package: SOD-123; Voltage DC Reverse (Vr): 30V
footprint SOD-123
pins: 1, 2

## BAT46W-7-F
designator D?
DIODE SCHOTTKY 100V 150MA SOD123; Manufacturer: Diodes Incorporated; Current Reverse Leakage @ Vr: 2uA @ 75V; Current Rectified: 150mA (DC); Voltage Forward (Vf): 450mV @ 10mA; Part Number: BAT46W-7-F; PartId: 14606; Supplier 1: Digi-Key; Supplier Part Number 1: BAT46W-7FDITR-ND; ComponentLink1Description: Datasheet; ComponentLink1URL: http://www.diodes.com/_files/datasheets/ds30044.pdf; ComponentLink2Description: Digi-Key Listing; ComponentLink2URL: https://www.digikey.com/product-detail/en/diodes-incorporated/BAT46W-7-F/BAT46W-7FDITR-ND/1934440; Junction Operating Temperature: -55C ~ 125C; Price: 0.081; Type: Schottky; Device Package: SOD-123; Voltage DC Reverse (Vr): 100V
footprint SOD-123
pins: 1, 2

## BAT46W-E3-08
designator D?
DIODE SCHOTTKY 100V 150MA SOD123; Manufacturer: Vishay Semiconductor Diodes Division; Current Reverse Leakage @ Vr: 5uA @ 75V; Current Rectified: 150mA (DC); Voltage Forward (Vf): 1V @ 250mA; Part Number: BAT46W-E3-08; PartId: 29348; Supplier 1: Digi-Key; Supplier Part Number 1: BAT46W-E3-08CT-ND; ComponentLink1Description: Datasheet; ComponentLink1URL: http://www.vishay.com/docs/85663/bat46wv.pdf; ComponentLink2Description: Digi-Key Listing; ComponentLink2URL: https://www.digikey.com/product-detail/en/vishay-semiconductor-diodes-division/BAT46W-E3-08/BAT46W-E3-08CT-ND/3104420; Junction Operating Temperature: 125C (Max); Price: 0.39; Type: Schottky; Device Package: SOD-123; Voltage DC Reverse (Vr): 100V
footprint SOD-123
pins: 1, 2

## BAT46W-E3-18
designator D?
DIODE SCHOTTKY 100V 150MA SOD123; Manufacturer: Vishay Semiconductor Diodes Division; Current Reverse Leakage @ Vr: 5uA @ 75V; Current Rectified: 150mA (DC); Voltage Forward (Vf): 1V @ 250mA; Part Number: BAT46W-E3-18; PartId: 29407; Supplier 1: Digi-Key; Supplier Part Number 1: BAT46W-E3-18GICT-ND; ComponentLink1Description: Datasheet; ComponentLink1URL: http://www.vishay.com/docs/85663/bat46wv.pdf; ComponentLink2Description: Digi-Key Listing; ComponentLink2URL: https://www.digikey.com/product-detail/en/vishay-semiconductor-diodes-division/BAT46W-E3-18/BAT46W-E3-18GICT-ND/6228425; Junction Operating Temperature: 125C (Max); Price: 0.39; Type: Schottky; Device Package: SOD-123; Voltage DC Reverse (Vr): 100V
footprint SOD-123
pins: 1, 2

## BAT46W-HE3-08
designator D?
DIODE SCHOTTKY 100V 150MA SOD123; Manufacturer: Vishay Semiconductor Diodes Division; Current Reverse Leakage @ Vr: 5uA @ 75V; Current Rectified: 150mA (DC); Voltage Forward (Vf): 1V @ 250mA; Part Number: BAT46W-HE3-08; PartId: 29409; Supplier 1: Digi-Key; Supplier Part Number 1: BAT46W-HE3-08GICT-ND; ComponentLink1Description: Datasheet; ComponentLink1URL: http://www.vishay.com/docs/85663/bat46wv.pdf; ComponentLink2Description: Digi-Key Listing; ComponentLink2URL: https://www.digikey.com/product-detail/en/vishay-semiconductor-diodes-division/BAT46W-HE3-08/BAT46W-HE3-08GICT-ND/6228455; Junction Operating Temperature: 125C (Max); Price: 0.41; Type: Schottky; Device Package: SOD-123; Voltage DC Reverse (Vr): 100V
footprint SOD-123
pins: 1, 2

## BAT46W-TP
designator D?
DIODE SCHOTTKY 100V 75MA SOD123; Manufacturer: Micro Commercial Co; Current Reverse Leakage @ Vr: 5uA @ 75V; Voltage Forward (Vf): 450mV @ 10mA; Part Number: BAT46W-TP; PartId: 29387; Supplier 1: Digi-Key; Supplier Part Number 1: BAT46W-TPMSCT-ND; ComponentLink1Description: Datasheet; ComponentLink1URL: http://www.mccsemi.com/up_pdf/BAT46W(SOD-123).pdf; ComponentLink2Description: Digi-Key Listing; ComponentLink2URL: https://www.digikey.com/product-detail/en/micro-commercial-co/BAT46W-TP/BAT46W-TPMSCT-ND/2345686; Junction Operating Temperature: -55C ~ 125C; Price: 0.4; Type: Schottky; Device Package: SOD-123; Voltage DC Reverse (Vr): 100V; Current Rectified: 75mA
footprint SOD-123
pins: 1, 2

## BAT46WH,115
designator D?
DIODE SCHOTTKY 100V 250MA; Manufacturer: NXP USA Inc.; Current Reverse Leakage @ Vr: 9uA @ 100V; Reverse Recovery Time (trr): 5.9ns; Current Rectified: 250mA (DC); Voltage Forward (Vf): 850mV @ 250mA; Part Number: BAT46WH,115; PartId: 29189; Supplier 1: Digi-Key; Supplier Part Number 1: 568-6016-1-ND; ComponentLink1Description: Datasheet; ComponentLink1URL: http://www.nxp.com/documents/data_sheet/BAT46WH.pdf; ComponentLink2Description: Digi-Key Listing; ComponentLink2URL: https://www.digikey.com/product-detail/en/nxp-usa-inc/BAT46WH,115/568-6016-1-ND/2531303; Junction Operating Temperature: 150C (Max); Price: 0.38; Type: Schottky; Device Package: SOD-123F; Voltage DC Reverse (Vr): 100V
footprint SOD123F
pins: 1, 2

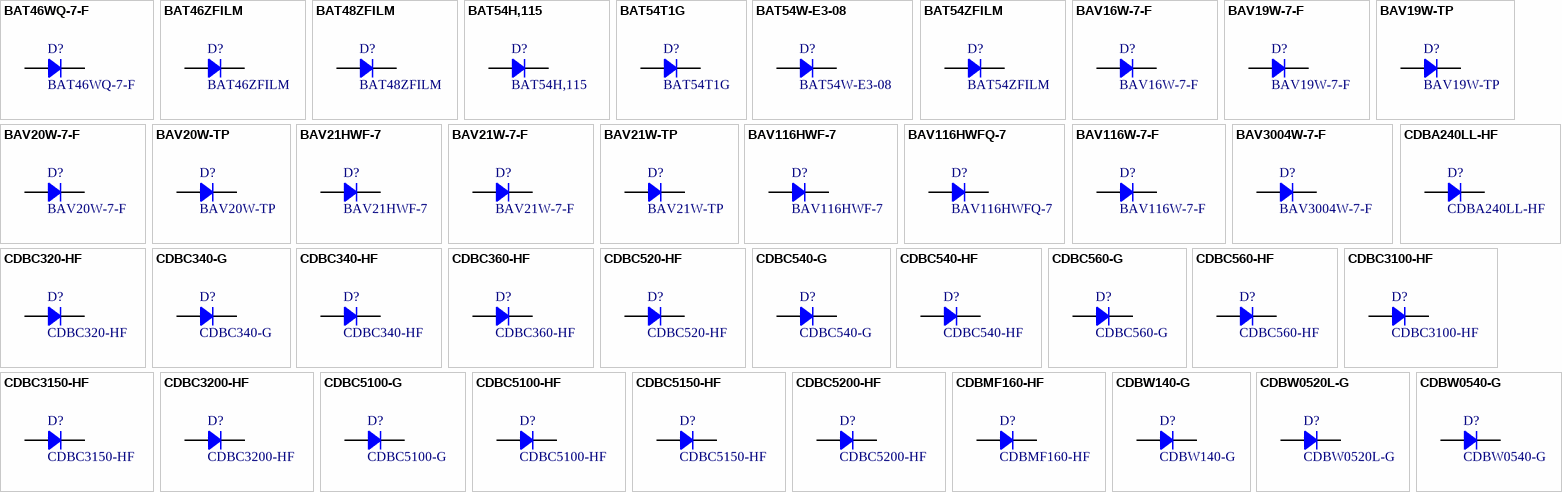
[diagram p3: symbols BAT46WQ-7-F to CDBW0540-G]

## BAT46WQ-7-F
designator D?
DIODE SCHOTTKY 100V SOD123; Manufacturer: Diodes Incorporated; Current Reverse Leakage @ Vr: 2uA @ 75V; Current Rectified: 150mA; Voltage Forward (Vf): 450mV @ 10mA; Part Number: BAT46WQ-7-F; PartId: 29436; Supplier 1: Digi-Key; Supplier Part Number 1: BAT46WQ-7-FDICT-ND; ComponentLink1Description: Datasheet; ComponentLink1URL: http://www.diodes.com/_files/datasheets/BAT46WQ.pdf; ComponentLink2Description: Digi-Key Listing; ComponentLink2URL: https://www.digikey.com/product-detail/en/diodes-incorporated/BAT46WQ-7-F/BAT46WQ-7-FDICT-ND/6003951; Junction Operating Temperature: -55C ~ 125C; Price: 0.37; Type: Schottky; Device Package: SOD-123; Voltage DC Reverse (Vr): 100V
footprint SOD-123
pins: 1, 2

## BAT46ZFILM
designator D?
DIODE SCHOTTKY 100V 150MA SOD123; Manufacturer: STMicroelectronics; Current Reverse Leakage @ Vr: 5uA @ 75V; Current Rectified: 150mA (DC); Voltage Forward (Vf): 1V @ 250mA; Part Number: BAT46ZFILM; PartId: 29342; Supplier 1: Digi-Key; Supplier Part Number 1: 497-5559-1-ND; ComponentLink1Description: Datasheet; ComponentLink1URL: http://www.st.com/content/ccc/resource/technical/document/datasheet/c6/32/d4/4a/28/d3/4b/11/CD00004930.pdf/files/CD00004930.pdf/jcr:content/translations/en.CD00004930.pdf; ComponentLink2Description: Digi-Key Listing; ComponentLink2URL: https://www.digikey.com/product-detail/en/stmicroelectronics/BAT46ZFILM/497-5559-1-ND/1207051; Junction Operating Temperature: 150C (Max); Price: 0.34; Type: Schottky; Device Package: SOD-123; Voltage DC Reverse (Vr): 100V
footprint SOD-123
pins: 1, 2

## BAT48ZFILM
designator D?
DIODE SCHOTTKY 40V 350MA SOD123; Manufacturer: STMicroelectronics; Current Reverse Leakage @ Vr: 25uA @ 40V; Current Rectified: 350mA (DC); Voltage Forward (Vf): 750mV @ 200mA; Part Number: BAT48ZFILM; PartId: 29394; Supplier 1: Digi-Key; Supplier Part Number 1: 497-5712-1-ND; ComponentLink1Description: Datasheet; ComponentLink1URL: http://www.st.com/content/ccc/resource/technical/document/datasheet/b2/2f/2a/0c/8b/b5/46/a3/CD00130229.pdf/files/CD00130229.pdf/jcr:content/translations/en.CD00130229.pdf; ComponentLink2Description: Digi-Key Listing; ComponentLink2URL: https://www.digikey.com/product-detail/en/stmicroelectronics/BAT48ZFILM/497-5712-1-ND/1299965; Junction Operating Temperature: -40C ~ 150C; Price: 0.43; Type: Schottky; Device Package: SOD-123; Voltage DC Reverse (Vr): 40V
footprint SOD-123
pins: 1, 2

## BAT54H,115
designator D?
DIODE SCHOTTKY 30V 200MA SOD123F; Manufacturer: NXP USA Inc.; Current Reverse Leakage @ Vr: 2uA @ 25V; Current Rectified: 200mA (DC); Voltage Forward (Vf): 800mV @ 100mA; Part Number: BAT54H,115; PartId: 29185; Supplier 1: Digi-Key; Supplier Part Number 1: 568-3415-1-ND; ComponentLink1Description: Datasheet; ComponentLink1URL: http://www.nxp.com/documents/data_sheet/BAT54H.pdf; ComponentLink2Description: Digi-Key Listing; ComponentLink2URL: https://www.digikey.com/product-detail/en/nxp-usa-inc/BAT54H,115/568-3415-1-ND/1127204; Junction Operating Temperature: 125C (Max); Price: 0.33; Type: Schottky; Device Package: SOD-123F; Voltage DC Reverse (Vr): 30V
footprint SOD123F
pins: 1, 2

## BAT54T1G
designator D?
DIODE SCHOTTKY 30V 200MA SOD123; Manufacturer: ON Semiconductor; Current Reverse Leakage @ Vr: 2uA @ 25V; Reverse Recovery Time (trr): 5ns; Current Rectified: 200mA (DC); Voltage Forward (Vf): 800mV @ 100mA; Part Number: BAT54T1G; PartId: 29374; Supplier 1: Digi-Key; Supplier Part Number 1: BAT54T1GOSCT-ND; ComponentLink1Description: Datasheet; ComponentLink1URL: http://www.onsemi.com/pub_link/Collateral/BAT54T1-D.PDF; ComponentLink2Description: Digi-Key Listing; ComponentLink2URL: https://www.digikey.com/product-detail/en/on-semiconductor/BAT54T1G/BAT54T1GOSCT-ND/917813; Junction Operating Temperature: -55C ~ 125C; Price: 0.34; Type: Schottky; Device Package: SOD-123; Voltage DC Reverse (Vr): 30V
footprint SOD-123
pins: 1, 2

## BAT54W-E3-08
designator D?
DIODE SCHOTTKY 30V 200MA SOD123; Manufacturer: Vishay Semiconductor Diodes Division; Current Reverse Leakage @ Vr: 2uA @ 25V; Reverse Recovery Time (trr): 5ns; Current Rectified: 200mA (DC); Voltage Forward (Vf): 800mV @ 100mA; Part Number: BAT54W-E3-08; PartId: 29386; Supplier 1: Digi-Key; Supplier Part Number 1: BAT54W-E3-08CT-ND; ComponentLink1Description: Datasheet; ComponentLink1URL: http://www.vishay.com/docs/85666/bat54w.pdf; ComponentLink2Description: Digi-Key Listing; ComponentLink2URL: https://www.digikey.com/product-detail/en/vishay-semiconductor-diodes-division/BAT54W-E3-08/BAT54W-E3-08CT-ND/3104427; Junction Operating Temperature: 125C (Max); Price: 0.38; Type: Schottky; Device Package: SOD-123; Voltage DC Reverse (Vr): 30V
footprint SOD-123
pins: 1, 2

## BAT54ZFILM
designator D?
DIODE SCHOTTKY 40V 300MA SOD123; Manufacturer: STMicroelectronics; Current Reverse Leakage @ Vr: 1uA @ 30V; Reverse Recovery Time (trr): 5ns; Current Rectified: 300mA (DC); Voltage Forward (Vf): 900mV @ 100mA; Part Number: BAT54ZFILM; PartId: 29377; Supplier 1: Digi-Key; Supplier Part Number 1: 497-5562-1-ND; ComponentLink1Description: Datasheet; ComponentLink1URL: http://www.st.com/content/ccc/resource/technical/document/datasheet/07/50/54/f2/0d/ba/4a/79/CD00001322.pdf/files/CD00001322.pdf/jcr:content/translations/en.CD00001322.pdf; ComponentLink2Description: Digi-Key Listing; ComponentLink2URL: https://www.digikey.com/product-detail/en/stmicroelectronics/BAT54ZFILM/497-5562-1-ND/1207054; Junction Operating Temperature: -40C ~ 150C; Price: 0.33; Type: Schottky; Device Package: SOD-123; Voltage DC Reverse (Vr): 40V
footprint SOD-123
pins: 1, 2

## BAV16W-7-F
designator D?
DIODE GEN PURP 100V 150MA SOD123; Manufacturer: Diodes Incorporated; Type: Standard; Current Reverse Leakage @ Vr: 1uA @ 75V; Reverse Recovery Time (trr): 4ns; Voltage Forward (Vf): 1.25V @ 150mA; Part Number: BAV16W-7-F; PartId: 14591; Supplier 1: Digi-Key; Supplier Part Number 1: BAV16W-FDITR-ND; ComponentLink1Description: Datasheet; ComponentLink1URL: http://www.diodes.com/_files/datasheets/ds30086.pdf; ComponentLink2Description: Digi-Key Listing; ComponentLink2URL: https://www.digikey.com/product-detail/en/diodes-incorporated/BAV16W-7-F/BAV16W-FDITR-ND/717706; Junction Operating Temperature: -65C ~ 150C; Price: 0.0331; Device Package: SOD-123; Voltage DC Reverse (Vr): 100V; Current Rectified: 150mA
footprint SOD-123
pins: 1, 2

## BAV19W-7-F
designator D?
DIODE GEN PURP 100V 200MA SOD123; Manufacturer: Diodes Incorporated; Type: Standard; Current Reverse Leakage @ Vr: 100nA @ 100V; Reverse Recovery Time (trr): 50ns; Voltage Forward (Vf): 1.25V @ 200mA; Part Number: BAV19W-7-F; PartId: 14593; Supplier 1: Digi-Key; Supplier Part Number 1: BAV19W-FDITR-ND; ComponentLink1Description: Datasheet; ComponentLink1URL: http://www.diodes.com/_files/datasheets/ds12024.pdf; ComponentLink2Description: Digi-Key Listing; ComponentLink2URL: https://www.digikey.com/product-detail/en/diodes-incorporated/BAV19W-7-F/BAV19W-FDITR-ND/717708; Junction Operating Temperature: -65C ~ 150C; Price: 0.046; Device Package: SOD-123; Voltage DC Reverse (Vr): 100V; Current Rectified: 200mA
footprint SOD-123
pins: 1, 2

## BAV19W-TP
designator D?
DIODE GEN PURP 100V 200MA SOD123; Manufacturer: Micro Commercial Co; Type: Standard; Current Reverse Leakage @ Vr: 100nA @ 100V; Reverse Recovery Time (trr): 50ns; Voltage Forward (Vf): 1.25V @ 200mA; Part Number: BAV19W-TP; PartId: 29359; Supplier 1: Digi-Key; Supplier Part Number 1: BAV19WTPMSCT-ND; ComponentLink1Description: Datasheet; ComponentLink1URL: http://www.mccsemi.com/up_pdf/BAV19W-BAV21W(SOD-123).pdf; ComponentLink2Description: Digi-Key Listing; ComponentLink2URL: https://www.digikey.com/product-detail/en/micro-commercial-co/BAV19W-TP/BAV19WTPMSCT-ND/717348; Junction Operating Temperature: -55C ~ 150C; Price: 0.21; Device Package: SOD-123; Voltage DC Reverse (Vr): 100V; Current Rectified: 200mA
footprint SOD-123
pins: 1, 2

## BAV20W-7-F
designator D?
DIODE GEN PURP 150V 200MA SOD123; Manufacturer: Diodes Incorporated; Type: Standard; Current Reverse Leakage @ Vr: 100nA @ 150V; Reverse Recovery Time (trr): 50ns; Voltage Forward (Vf): 1.25V @ 200mA; Part Number: BAV20W-7-F; PartId: 14594; Supplier 1: Digi-Key; Supplier Part Number 1: BAV20W-FDITR-ND; ComponentLink1Description: Datasheet; ComponentLink1URL: http://www.diodes.com/_files/datasheets/ds12024.pdf; ComponentLink2Description: Digi-Key Listing; ComponentLink2URL: https://www.digikey.com/product-detail/en/diodes-incorporated/BAV20W-7-F/BAV20W-FDITR-ND/749954; Junction Operating Temperature: -65C ~ 150C; Price: 0.046; Device Package: SOD-123; Voltage DC Reverse (Vr): 150V; Current Rectified: 200mA
footprint SOD-123
pins: 1, 2